# EAGLE library part 22-23-2069 (library Connectors-Molex)
Buy from mouser <https://www.mouser.in/ProductDetail/Molex/22-23-2069?qs=5aG0NVq1C4w9SETrhkIVvA%3D%3D> Datasheet 22-23-2069 <https://www.mouser.in/datasheet/2/276/022232069_sd-1218081.pdf>
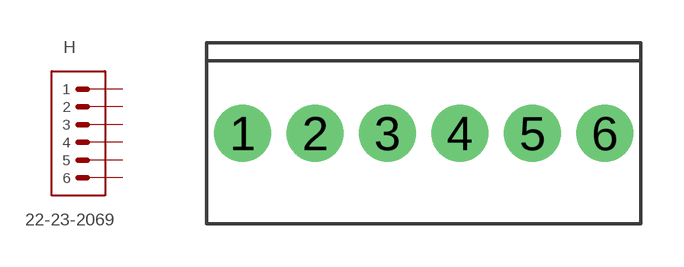
[diagram p1: symbol with the pads of MOLEX-HEADER-2.54-6P; footprint MOLEX-HEADER-2.54-6P]

Designator prefix H

## 22-23-2069 (DATASHEET: value; DIGIKEY-PART-NUMBER: value; LINK: value; MANUFACTURER: value; MPN: value; TECHNOLOGY: value; UNIT-PRICE: value)  [MOLEX-HEADER-2.54-6P]
1  1
2  2
3  3
4  4
5  5
6  6

## Footprint MOLEX-HEADER-2.54-6P (pad centres in mm)
drill 1 pad 2: 1 -6.35,0; 2 -3.81,0; 3 -1.27,0; 4 1.27,0; 5 3.81,0; 6 6.35,0